# Altium integrated library Deneme.IntLib: 1 symbol
Pins are listed as number, name and electrical type; pins without a type are passive.

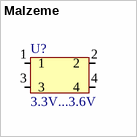
[diagram p0: symbol Malzeme]

## Malzeme
designator U?  Supply Voltage: 3.3V...3.6V  (hidden comment: *)
footprint Footprint1
pins: 1, 2, 3, 4